# Altium schematic symbol library SHT31-DIS-B.SchLib: 2 symbols
Pins are listed as number, name and electrical type; pins without a type are passive.

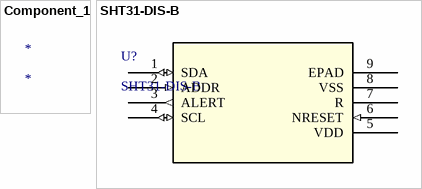
[diagram p0: symbols Component_1 to SHT31-DIS-B]

## Component_1
designator *

## SHT31-DIS-B
designator U?
No Description Available; Mfr_Name: Sensirion; Copyright: Copyright (C) 2021 Ultra Librarian. All rights reserved.; Manufacturer_Part_Number: SHT31-DIS-B; RefDes: RefDes; Type: DEV
footprint SHT3x-DIS_SEN
pins: 1 SDA (io), 2 ADDR (in), 3 ALERT (out), 4 SCL (io), 5 VDD (power), 6 NRESET (in), 7 R, 8 VSS, 9 EPAD